# Altium integrated library DWM1001C.IntLib: 1 symbol
Pins are listed as number, name and electrical type; pins without a type are passive.

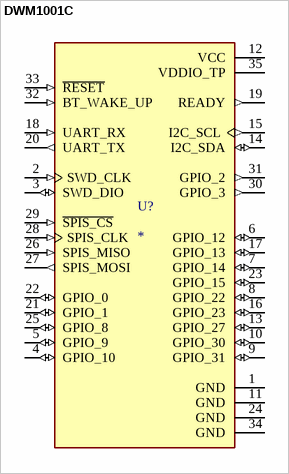
[diagram p0: symbol DWM1001C]

## DWM1001C
designator U?
RX TXRX MODULE BT TRC ANT SMD; MF: Qorvo; MP: DWM1001C; Availability: In Stock; SnapEDA_Link: https://www.snapeda.com/parts/DWM1001C/Qorvo/view-part/?ref=snap; Price: None; Check_prices: https://www.snapeda.com/parts/DWM1001C/Qorvo/view-part/?ref=eda; Package: None; Value: *; Purchase-URL: https://pricing.snapeda.com/search/part/DWM1001C/?ref=eda
footprint XCVR_DWM1001C
pins: 1 GND (power), 2 SWD_CLK (in), 3 SWD_DIO (io), 4 GPIO_10 (io), 5 GPIO_9 (io), 6 GPIO_12 (io), 7 GPIO_14 (io), 8 GPIO_22 (io), 9 GPIO_31 (io), 10 GPIO_30 (io), 11 GND (power), 12 VCC (power), 13 GPIO_27 (io), 14 I2C_SDA (io), 15 I2C_SCL (out), 16 GPIO_23 (io), 17 GPIO_13 (io), 18 UART_RX (in), 19 READY (out), 20 UART_TX (out), 21 GPIO_1 (io), 22 GPIO_0 (io), 23 GPIO_15 (io), 24 GND (power), 25 GPIO_8 (io), 26 SPIS_MISO (in), 27 SPIS_MOSI (out), 28 SPIS_CLK (in), 29 ~{SPIS_CS} (in), 30 GPIO_3 (out), 31 GPIO_2 (out), 32 BT_WAKE_UP (in), 33 ~{RESET} (in), 34 GND (power), 35 VDDIO_TP (power)